# Altium integrated library K103K10X7RF53L2.IntLib: 2 symbols
Pins are listed as number, name and electrical type; pins without a type are passive.

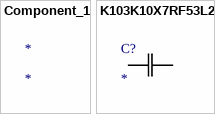
[diagram p0: symbols Component_1 to K103K10X7RF53L2]

## Component_1
designator *

## K103K10X7RF53L2
designator C?
No Description Available; Mfr_Name: Vishay; Type: Ceramic Capacitor
footprint K103K10X7RF53L2_VIS
pins: 1, 2